# Altium schematic symbol library LTC2057.Schlib: 1 symbol
Pins are listed as number, name and electrical type; pins without a type are passive.

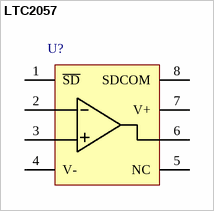
[diagram p0: symbol LTC2057]

## LTC2057
designator U?  (value not drawn)
Op-Amp, Single, 8-pin, LTC2057
pins: 1 ~{SD}, 2 -IN, 3 +IN, 4 V-, 5 NC, 6 OUT, 7 V+, 8 SDCOM